# Altium integrated library TLV62569DBVR.IntLib: 1 symbol
Pins are listed as number, name and electrical type; pins without a type are passive.

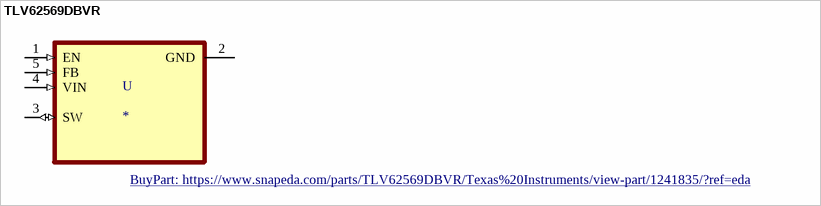
[diagram p0: symbol TLV62569DBVR]

## TLV62569DBVR
designator U
2.5V-5.5V input, 2-A high efficiency step-down buck converter in SOT23 and SOT563 package 5-SOT-23 -40 to 125; MF: Texas Instruments; MP: TLV62569DBVR; Value: *; Mouser-Purchase-URL: https://snapeda.com/shop?store=Mouser&id=1241835; Package: SOT-23-5 Texas Instruments; Arrow_Electronics-Purchase-URL: https://snapeda.com/shop?store=Arrow+Electronics&id=1241835; Price: None; Availability: Good; SnapEDA_Link: https://www.snapeda.com/parts/TLV62569DBVR/Texas%20Instruments/view-part/1241835/?ref=snap; Texas_Instruments-Purchase-URL: https://snapeda.com/shop?store=Texas+Instruments&id=1241835; BuyPart: https://www.snapeda.com/parts/TLV62569DBVR/Texas%20Instruments/view-part/1241835/?ref=eda
footprint SOT95P280X145-5N
pins: 1 EN (in), 2 GND (power), 3 SW (io), 4 VIN (in), 5 FB (in)